# Altium schematic symbol library Supernova Switches.SchLib: 28 symbols
Pins are listed as number, name and electrical type; pins without a type are passive.

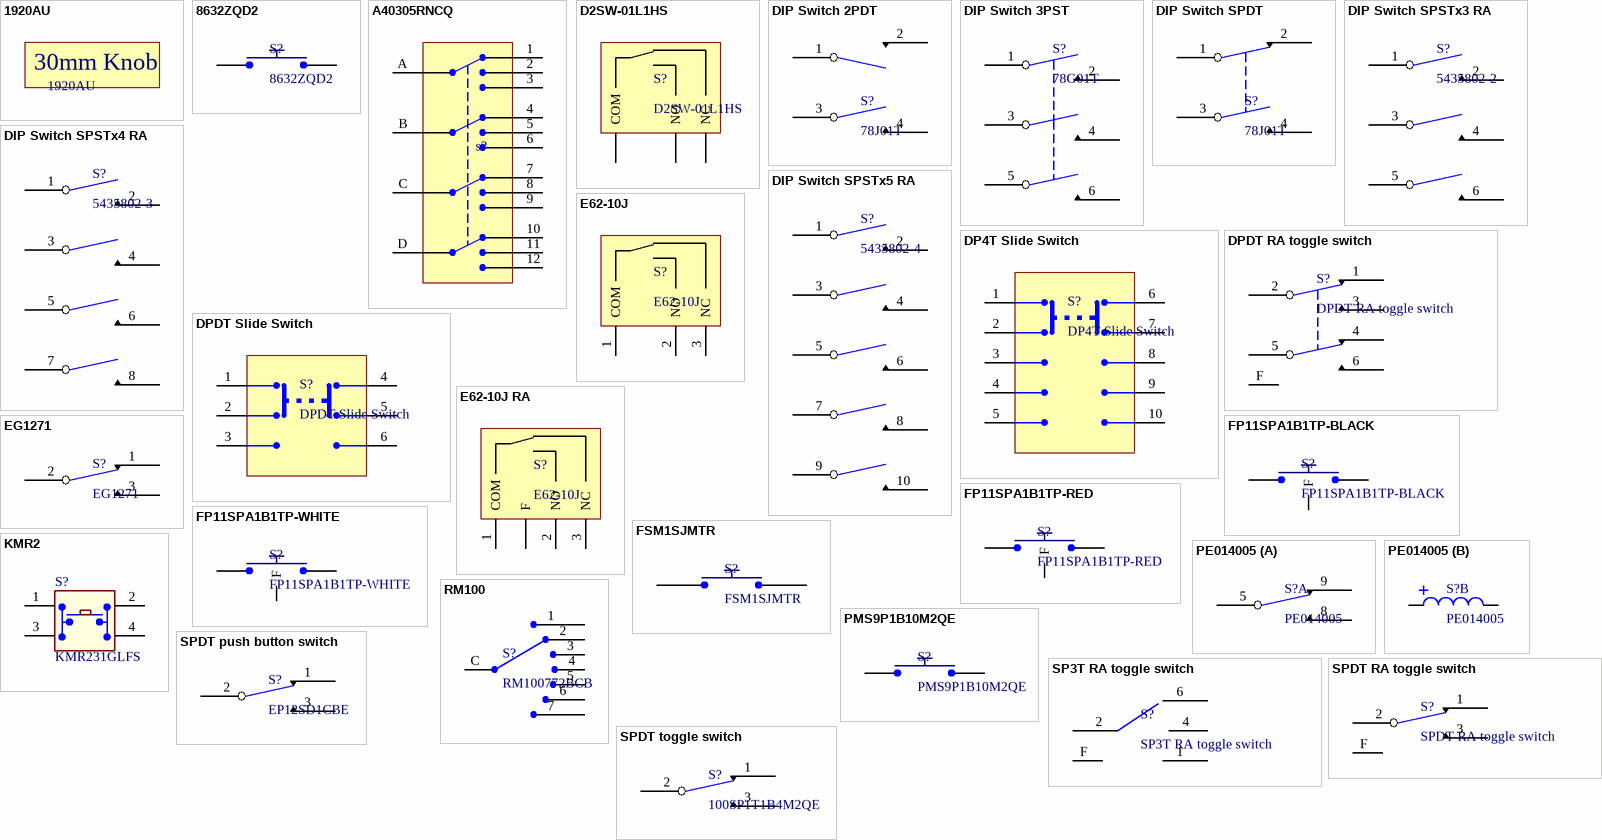
[diagram p0: symbols 1920AU to SPDT toggle switch]

## 1920AU
designator K?  (mechanical)
Knob for Rotary Switch; Supplier 1: Digi-Key; Supplier Part Number 1: 1722-1182-ND; Supplier 2: Digi-Key; Supplier Part Number 2: 1722-1179-ND
text: 30mm Knob

## 8632ZQD2
designator S?
Switch Push Button Mom-Off; Supplier 1: Digi-Key; Supplier Part Number 1: CKN1680-ND; Supplier 2: Mouser; Supplier Part Number 2: 611-8632-252
footprint 8632ZQD2
pins: 1 3, 2 4

## A40305RNCQ
designator s?  (value not drawn)
Switch, 4P3T Rotary; Supplier 1: Digi-Key; Supplier Part Number 1: CKN9827-ND; Supplier 2: Mouser; Supplier Part Number 2: 611-A40305RNCQ; Supplier 3: Mouser; Supplier Part Number 3: 611-A40305RNCQE
footprint A40305RNCQ
pins: 1, 2, 3, 4, 5, 6, 7, 8, 9, 10, 11, 12, A, B, C, D

## D2SW-01L1HS
designator S?
Switch SPDT; Supplier 1: Digi-Key; Supplier 2: Mouser; Supplier Part Number 1: SW1277-ND; Supplier Part Number 2: 653-D2SW-01L1HS
footprint D2SW-01L1HS
pins: COM (power), NC (power), NO (power)

## DIP Switch 2PDT
designator S?, comment 78J01T
Switch 2PST DIP; Supplier 1: Digi-Key; Supplier Part Number 1: GH7180-ND; Supplier 2: Digi-Key; Supplier Part Number 2: GH7181-ND
footprint 78B02ST
pins: 1 10, 2 11, 3 10, 4 12

## DIP Switch 3PST
designator S?, comment 78G01T
Switch 3PST DIP; Supplier 1: Digi-Key; Supplier 2: Digi-Key; Supplier Part Number 1: GH7732-ND; Supplier Part Number 2: GH7731-ND
footprint 78G01T
pins: 1 10, 2 12, 3 5, 4 12, 5, 6 12

## DIP Switch SPDT
designator S?, comment 78J01T
Switch SPDT DIP; Supplier 1: Digi-Key; Supplier 2: Mouser; Supplier 3: Newark; Supplier Part Number 1: GH7737-ND; Supplier Part Number 2: 706-78J01T; Supplier Part Number 3: 63K8414
footprint 78J01T
pins: 1 10, 2 11, 3 10, 4 12

## DIP Switch SPSTx3 RA
designator S?, comment 5435802-2
Switch SPSTx3 DIP RA; Supplier 1: Digi-Key; Supplier 2: Digi-Key; Supplier Part Number 1: 450-1421-ND; Supplier Part Number 2: GH7133-ND
footprint 76PSB03ST
pins: 1 10, 2 12, 3 5, 4 12, 5, 6 12

## DIP Switch SPSTx4 RA
designator S?, comment 5435802-3
Switch SPSTx4 DIP RA; Supplier 1: Digi-Key; Supplier Part Number 1: SW1010-ND; Supplier 2: Digi-Key; Supplier Part Number 2: GH7138-ND
footprint 76PSB04T
pins: 1 10, 2 12, 3 5, 4 12, 5, 6 12, 7 5, 8 12

## DIP Switch SPSTx5 RA
designator S?, comment 5435802-4
Switch SPSTx5 DIP RA; Supplier 1: Digi-Key; Supplier Part Number 1: SW1010-ND; Supplier 2: Digi-Key; Supplier Part Number 2: GH7138-ND
footprint 76PSB05T
pins: 1 10, 2 12, 3 5, 4 12, 5, 6 12, 7 5, 8 12, 9 5, 10 12

## DP4T Slide Switch
designator S?
Switch DP4T Slide; Supplier 1: Digi-Key; Supplier 2: Mouser; Supplier Part Number 1: SW109-ND; Supplier Part Number 2: 629-G1138S1110
footprint G-1138S-1110 (Footprint not found)
pins: 1 27, 2 27, 3 27, 4 27, 5 27, 6 27, 7 27, 8 27, 9 27, 10 27

## DPDT RA toggle switch
designator S?
Switch DPDT RA toggle; Supplier 1: Digi-Key; Supplier Part Number 1: CKN1055-ND; Supplier 2: Mouser; Supplier Part Number 2: 611-7211MD9ABE; Supplier 3: Mouser; Supplier Part Number 3: 611-7201MD9AQE
footprint 7000 series DPDT
pins: 1 11, 2 10, 3 12, 4 11, 5, 6 12, F 1

## DPDT Slide Switch
designator S?
Switch DPDT Slide; Supplier 1: Digi-Key; Supplier 2: Mouser; Supplier Part Number 1: SW105-ND; Supplier Part Number 2: 629-GF11261110
footprint GF-1126-1110 (Footprint not found)
pins: 1 27, 2 27, 3 27, 4 27, 5 27, 6 27

## E62-10J
designator S?
Switch SPDT; Manufacturer 1: ZF; Manufacturer Part Number 1: E62-10J
footprint E62-10J
pins: 1 COM (power), 2 NO (power), 3 NC (power)

## E62-10J RA
designator S?, comment E62-10J
Switch SPDT RA; Manufacturer 1: ZF; Manufacturer Part Number 1: E62-10J
footprint E62-10J RA
pins: 1 COM (power), 2 NO (power), 3 NC (power), F (power)

## EG1271
designator S?
Switch SPDT slide; Supplier 1: Digi-Key; Supplier 2: Mouser; Supplier 3: Digi-Key; Supplier 4: Mouser; Supplier Part Number 1: EG1918-ND; Supplier Part Number 2: 612-EG1271; Supplier Part Number 3: EG1919-ND; Supplier Part Number 4: 612-EG1271A
footprint EG1271
pins: 1 11, 2 10, 3 12

## FP11SPA1B1TP-BLACK
designator S?
Switch Push Button Mom-Off; Supplier 1: Digi-Key; Supplier Part Number 1: CKN10298-ND
footprint FP11SPA1B1TP-Black
pins: 1 3, 3 4, F

## FP11SPA1B1TP-RED
designator S?
Switch Push Button Mom-Off; Supplier 1: Digi-Key; Supplier Part Number 1: CKN10299-ND; Supplier 2: Mouser; Supplier Part Number 2: 611-FP11SPA1B1TP03
footprint FP11SPA1B1TP-Red
pins: 1 3, 3 4, F

## FP11SPA1B1TP-WHITE
designator S?
Switch Push Button Mom-Off; Supplier 1: Digi-Key; Supplier Part Number 1: CKN10297-ND; Supplier 2: Mouser; Supplier Part Number 2: 611-FP11SPA1B1TP01
footprint FP11SPA1B1TP-White
pins: 1 3, 3 4, F

## FSM1SJMTR
designator S?
Switch Tactile Mom-Off; Supplier 1: Digi-Key; Supplier Part Number 1: 450-2155-1-ND; Supplier 2: Digi-Key; Supplier 3: Digi-Key; Supplier Part Number 2: 401-1703-1-ND; Supplier Part Number 3: 401-1702-1-ND
footprint FSM1SJMTR
pins: 1 3, 2 4

## KMR2
designator S?, comment KMR231GLFS
Switch Tactile STSP; Manufacturer: C&K Components; Circuit: SPST-NO; Switch Function: Off-Mom; Contact Rating @ Voltage: 0.05A @ 32VDC; Actuator Type: Standard; Actuator Height off PCB, from Pins: 1.90mm; Actuator Orientation: Top Actuated; Outline: 4.60mm x 2.80mm; Illumination: Non-Illuminated; Operating Force: 300gf; Switch Travel: 0.25mm; Mechanical Life: 150,000 Cycles; Manufacturer Part Number: KMR231GLFS; RoHS: RoHS Compliant; Category: Switches; Termination Style: Gull Wing; Illumination Voltage (Nominal): -; Illumination Type, Color: -; Ingress Protection: -; Features: Grounding Pin; Packaging: Digi-Reel®; Actuator Material: -; Operating Temperature: -40°C ~ 85°C; ComponentLink1URL: http://www.ck-components.com/index.php?module=media&action=Display&cmpref=14414&lang=en&width=&height=&format=&alt=; ComponentLink1Description: http://www.ck-components.com/index.php?module=media&action=Display&cmpref=14414&lang=en&width=&height=&format=&alt=; Package / Case: KMR231GLFS; Value: Switch; Supplier 1: Digi-Key; Supplier Part Number 1: 401-1429-1-ND; Supplier 2: Digi-Key; Supplier 3: Digi-Key; Supplier 4: Digi-Key; Supplier Part Number 2: CKN10246CT-ND; Supplier Part Number 3: CKN10284CT-ND; Supplier Part Number 4: CKN10245CT-ND
footprint KMR231GLFS (SW4SMD_63X161LS)
pins: 1 A1, 2 A2, 3 A3, 4

## PE014005
designator S?
Relay SPDT TH; Supplier 1: Mouser; Supplier 2: Digi-Key; Supplier Part Number 2: PB353-ND; Supplier Part Number 1: 655-PE014005
footprint K$5C$PE-CO
part A pins: 5 10, 8 12, 9 11
part B pins: 1, 16

## PMS9P1B10M2QE
designator S?
Switch Push Button Mom-Off; Supplier 1: Digi-Key; Supplier Part Number 1: 450-2063-ND; Supplier 2: Mouser; Supplier Part Number 2: 506-PMS9P1B10M2QE
footprint PMS9P1B10M2QE
pins: 1 3, 2 4

## RM100
designator S?, comment RM100772BCB
Switch SP7T Rotary; Supplier 1: Digi-Key; Supplier Part Number 1: CKN10691-ND; Supplier 2: Mouser; Supplier Part Number 2: 611-RM100772BCB
footprint RM100 (Footprint not found)
pins: 1, 2, 3, 4, 5, 6, 7, C

## SP3T RA toggle switch
designator S?
Switch SP3T RA toggle; Supplier 1: Digi-Key; Supplier Part Number 1: CKN1491-ND; Supplier 2: Digi-Key; Supplier Part Number 2: CKN11431-ND; Supplier 3: Mouser; Supplier Part Number 3: 611-7201MD9AQE
footprint 7000 series DPDT
pins: 1 12, 2 10, 4 12, 6 11, F 1

## SPDT push button switch
designator S?, comment EP12SD1CBE
Switch SPDT push button; Supplier 1: Digi-Key; Supplier Part Number 1: CKN4043-ND; Supplier 2: Digi-Key; Supplier Part Number 2: EG2604-ND
footprint EP12SD1CBE
footprint EP12SD1CBE - tight
footprint EP12SD1CBE - missing NO
pins: 1 11, 2 10, 3 12

## SPDT RA toggle switch
designator S?
Switch SPDT RA toggle; Supplier 1: Digi-Key; Supplier Part Number 1: CKN1045-ND; Supplier 2: Digi-Key; Supplier 3: Digi-Key; Supplier Part Number 2: CKN1047-ND; Supplier Part Number 3: CKN1046-ND
footprint 7000 series SPDT
pins: 1 11, 2 10, 3 12, F 1

## SPDT toggle switch
designator S?, comment 100SP1T1B4M2QE
Switch SPDT toggle; Supplier 1: Digi-Key; Supplier 2: Mouser; Supplier 3: Newark; Supplier 4: Digi-Key; Supplier Part Number 4: CKN1002-ND; Supplier Part Number 3: 15N9997; Supplier Part Number 2: 612-100-A1421; Supplier Part Number 1: EG2355-ND
footprint 100SP1T1B4M2QE (Footprint not found)
pins: 1 11, 2 10, 3 12